# Altium schematic symbol library Opto_PS2801-4.SchLib: 1 symbol
Pins are listed as number, name and electrical type; pins without a type are passive.

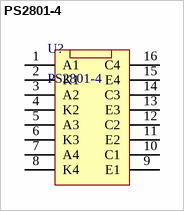
[diagram p0: symbol PS2801-4]

## PS2801-4
designator U?
opto
footprint Opto_PS2801-4 (TSOP, 16-Leads, Body 10.35x4.40mm, Pitch 1.27mm, IPC Medium Density)
pins: 1 A1, 2 K1, 3 A2, 4 K2, 5 A3, 6 K3, 7 A4, 8 K4, 9 E1, 10 C1, 11 E2, 12 C2, 13 E3, 14 C3, 15 E4, 16 C4